# Altium schematic symbol library SN74LS48N.SchLib: 1 symbol
Pins are listed as number, name and electrical type; pins without a type are passive.

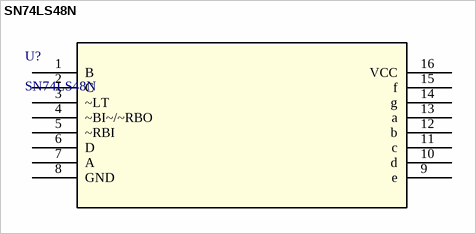
[diagram p0: symbol SN74LS48N]

## SN74LS48N
designator U?
No Description Available; Manufacturer_Name: Texas Instruments; Copyright: Copyright (C) 2026 Ultra Librarian. All rights reserved.; Manufacturer_Part_Number: SN74LS48N; RefDes: RefDes; Type: Type
footprint DIP16_300
pins: 1 B, 2 C, 3 ~LT, 4 ~BI~/~RBO, 5 ~RBI, 6 D, 7 A, 8 GND, 9 e, 10 d, 11 c, 12 b, 13 a, 14 g, 15 f, 16 VCC